# Altium integrated library Diodes.IntLib: 448 symbols (part 7 of 10)
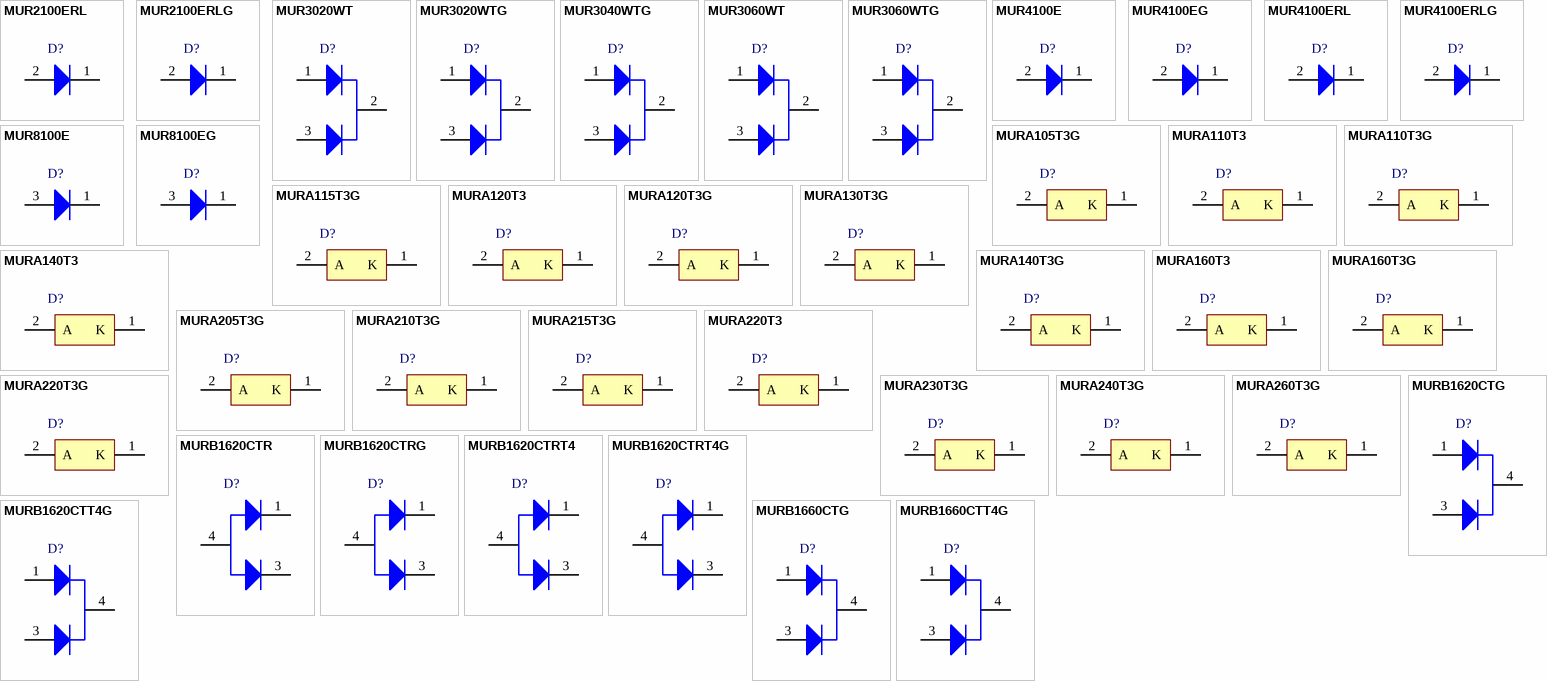
[diagram p17: symbols MUR2100ERL to MURB1660CTT4G]

## MUR8100EG
designator D?
SWITCHMODE(TM) Power Rectifier, Ultrafast 'E' Series with High Reverse Energy Capability, 2-Pin TO-220, Pb-Free, Tube; Manufacturer: On Semiconductor; PartNumber: MUR8100EG; IFSM Max (A): 100; DatasheetVersion: Rev. 4; PackageVersion: Rev. E; PackageReference: TO-220-2-221B-04_E; PackageDescription: 2-Pin Flange Mount, Vertical Straight Lead, Body 9.97 x 4.44 mm, Pitch 5.08 mm; Supplier 1: Digi-Key; Supplier Part Number 1: MUR8100EGOS-ND; Supplier 2: Farnell; Supplier Part Number 2: 9557547; Supplier 3: Newark; Supplier Part Number 3: 88H4948; Supplier 4: Mouser; Supplier Part Number 4: 863-MUR8100EG; Packing: Tube; RoHS: TRUE; Type: Ultrafast; Mounting Technology: Through Hole; ComponentLink1Description: Manufacturer URL; ComponentLink1URL: http://www.onsemi.com/; ComponentLink2Description: Datasheet; ComponentLink2URL: http://www.onsemi.cn/pub_link/Collateral/MUR8100E-D.PDF; ComponentLink3Description: Package Specification; ComponentLink3URL: http://www.onsemi.com/pub_link/Collateral/BYW29-D.PDF
footprint ONSC-TO-220-2-221B-04_E (FM, 2-Leads, Body 10.3x4.85mm, Pitch 5.08mm)
pins: 1 K, 3 A

## MURA105T3G
designator D?
Surface Mount Ultrafast Power Rectifier, 2-Pin SMA, Pb-Free, Tape and Reel; Manufacturer: On Semiconductor; PartNumber: MURA105T3G; IFSM Max (A): 50; DatasheetVersion: Rev. 5; PackageVersion: Rev. G, 07/2012; PackageReference: SMA-2-403D-02; PackageDescription: 2-Pin Small Molded Package, J-Bend Lead, Body 2.605 x 4.315 mm; Supplier 1: Digi-Key; Supplier Part Number 1: MURA105T3GOSTR-ND; Supplier 2: Digi-Key; Supplier Part Number 2: MURA105T3GOSCT-ND; Supplier 3: Digi-Key; Supplier Part Number 3: MURA105T3GOSDKR-ND; Supplier 4: Farnell; Supplier Part Number 4: 1311161; Supplier 5: Newark; Supplier Part Number 5: 26K4688; Supplier 6: Mouser; Supplier Part Number 6: 863-MURA105T3G; Packing: Tape and Reel; RoHS: TRUE; Type: Ultrafast; Mounting Technology: Surface Mount; ComponentLink1Description: Manufacturer URL; ComponentLink1URL: http://www.onsemi.com/; ComponentLink2Description: Datasheet; ComponentLink2URL: http://www.onsemi.cn/pub_link/Collateral/MURA105T3-D.PDF; ComponentLink3Description: Package Specification; ComponentLink3URL: http://www.onsemi.com/pub_link/Collateral/403D-02.PDF
footprint ONSC-SMA-2-403D-02_V (Molded, 2-Leads, Body 4.57x2.92mm)
pins: 1 K, 2 A

## MURA110T3
designator D?
Surface Mount Ultrafast Power Rectifier, 2-Pin SMA, Tape and Reel; Manufacturer: On Semiconductor; PartNumber: MURA110T3; IFSM Max (A): 50; DatasheetVersion: Rev. 5; PackageVersion: Rev. G, 07/2012; PackageReference: SMA-2-403D-02; PackageDescription: 2-Pin Small Molded Package, J-Bend Lead, Body 2.605 x 4.315 mm; Supplier 1: Digi-Key; Supplier Part Number 1: MURA110T3OSCT-ND; Supplier 2: Digi-Key; Supplier Part Number 2: MURA110T3OSDKR-ND; Packing: Tape and Reel; RoHS: FALSE; Type: Ultrafast; Mounting Technology: Surface Mount; ComponentLink1Description: Manufacturer URL; ComponentLink1URL: http://www.onsemi.com/; ComponentLink2Description: Datasheet; ComponentLink2URL: http://www.onsemi.cn/pub_link/Collateral/MURA105T3-D.PDF; ComponentLink3Description: Package Specification; ComponentLink3URL: http://www.onsemi.com/pub_link/Collateral/403D-02.PDF
footprint ONSC-SMA-2-403D-02_V (Molded, 2-Leads, Body 4.57x2.92mm)
pins: 1 K, 2 A

## MURA110T3G
designator D?
Surface Mount Ultrafast Power Rectifier, 2-Pin SMA, Pb-Free, Tape and Reel; Manufacturer: On Semiconductor; PartNumber: MURA110T3G; IFSM Max (A): 50; DatasheetVersion: Rev. 5; PackageVersion: Rev. G, 07/2012; PackageReference: SMA-2-403D-02; PackageDescription: 2-Pin Small Molded Package, J-Bend Lead, Body 2.605 x 4.315 mm; Supplier 1: Digi-Key; Supplier Part Number 1: MURA110T3GOSTR-ND; Supplier 2: Digi-Key; Supplier Part Number 2: MURA110T3GOSCT-ND; Supplier 3: Digi-Key; Supplier Part Number 3: MURA110T3GOSDKR-ND; Supplier 4: Farnell; Supplier Part Number 4: 1459146RL; Supplier 5: Farnell; Supplier Part Number 5: 1459146; Supplier 6: Farnell; Supplier Part Number 6: 2370837; Supplier 7: Newark; Supplier Part Number 7: 67R1385; Supplier 8: Newark; Supplier Part Number 8: 45J1731; Supplier 9: Mouser; Supplier Part Number 9: 863-MURA110T3G; Packing: Tape and Reel; RoHS: TRUE; Type: Ultrafast; Mounting Technology: Surface Mount; ComponentLink1Description: Manufacturer URL; ComponentLink1URL: http://www.onsemi.com/; ComponentLink2Description: Datasheet; ComponentLink2URL: http://www.onsemi.cn/pub_link/Collateral/MURA105T3-D.PDF; ComponentLink3Description: Package Specification; ComponentLink3URL: http://www.onsemi.com/pub_link/Collateral/403D-02.PDF
footprint ONSC-SMA-2-403D-02_V (Molded, 2-Leads, Body 4.57x2.92mm)
pins: 1 K, 2 A

## MURA115T3G
designator D?
Surface Mount Ultrafast Power Rectifier, 2-Pin SMA, Pb-Free, Tape and Reel; Manufacturer: On Semiconductor; PartNumber: MURA115T3G; IFSM Max (A): 40; DatasheetVersion: Rev. 8; PackageVersion: Rev. G, 07/2012; PackageReference: SMA-2-403D-02; PackageDescription: 2-Pin Small Molded Package, J-Bend Lead, Body 2.605 x 4.315 mm; Supplier 1: Digi-Key; Supplier Part Number 1: MURA115T3GOSTR-ND; Supplier 2: Digi-Key; Supplier Part Number 2: MURA115T3GOSCT-ND; Supplier 3: Digi-Key; Supplier Part Number 3: MURA115T3GOSDKR-ND; Supplier 4: Farnell; Supplier Part Number 4: 1358457; Supplier 5: Newark; Supplier Part Number 5: 45J1732; Supplier 6: Mouser; Supplier Part Number 6: 863-MURA115T3G; Packing: Tape and Reel; RoHS: TRUE; Type: Ultrafast; Mounting Technology: Surface Mount; ComponentLink1Description: Manufacturer URL; ComponentLink1URL: http://www.onsemi.com/; ComponentLink2Description: Datasheet; ComponentLink2URL: http://www.onsemi.cn/pub_link/Collateral/MURA115T3-D.PDF; ComponentLink3Description: Package Specification; ComponentLink3URL: http://www.onsemi.com/pub_link/Collateral/403D-02.PDF
footprint ONSC-SMA-2-403D-02_V (Molded, 2-Leads, Body 4.57x2.92mm)
pins: 1 K, 2 A

## MURA120T3
designator D?
Surface Mount Ultrafast Power Rectifier, 2-Pin SMA, Tape and Reel; Manufacturer: On Semiconductor; PartNumber: MURA120T3; IFSM Max (A): 40; DatasheetVersion: Rev. 8; PackageVersion: Rev. G, 07/2012; PackageReference: SMA-2-403D-02; PackageDescription: 2-Pin Small Molded Package, J-Bend Lead, Body 2.605 x 4.315 mm; Supplier 1: Digi-Key; Supplier Part Number 1: MURA120T3OSCT-ND; Supplier 2: Digi-Key; Supplier Part Number 2: MURA120T3OSDKR-ND; Packing: Tape and Reel; RoHS: FALSE; Type: Ultrafast; Mounting Technology: Surface Mount; ComponentLink1Description: Manufacturer URL; ComponentLink1URL: http://www.onsemi.com/; ComponentLink2Description: Datasheet; ComponentLink2URL: http://www.onsemi.cn/pub_link/Collateral/MURA115T3-D.PDF; ComponentLink3Description: Package Specification; ComponentLink3URL: http://www.onsemi.com/pub_link/Collateral/403D-02.PDF
footprint ONSC-SMA-2-403D-02_V (Molded, 2-Leads, Body 4.57x2.92mm)
pins: 1 K, 2 A

## MURA120T3G
designator D?
Surface Mount Ultrafast Power Rectifier, 2-Pin SMA, Pb-Free, Tape and Reel; Manufacturer: On Semiconductor; PartNumber: MURA120T3G; IFSM Max (A): 40; DatasheetVersion: Rev. 8; PackageVersion: Rev. G, 07/2012; PackageReference: SMA-2-403D-02; PackageDescription: 2-Pin Small Molded Package, J-Bend Lead, Body 2.605 x 4.315 mm; Supplier 1: Digi-Key; Supplier Part Number 1: MURA120T3GOSTR-ND; Supplier 2: Digi-Key; Supplier Part Number 2: MURA120T3GOSCT-ND; Supplier 3: Digi-Key; Supplier Part Number 3: MURA120T3GOSDKR-ND; Supplier 4: Farnell; Supplier Part Number 4: 1459147RL; Supplier 5: Farnell; Supplier Part Number 5: 1459147; Supplier 6: Newark; Supplier Part Number 6: 14N8115; Supplier 7: Newark; Supplier Part Number 7: 45J1733; Supplier 8: Mouser; Supplier Part Number 8: 863-MURA120T3G; Packing: Tape and Reel; RoHS: TRUE; Type: Ultrafast; Mounting Technology: Surface Mount; ComponentLink1Description: Manufacturer URL; ComponentLink1URL: http://www.onsemi.com/; ComponentLink2Description: Datasheet; ComponentLink2URL: http://www.onsemi.cn/pub_link/Collateral/MURA115T3-D.PDF; ComponentLink3Description: Package Specification; ComponentLink3URL: http://www.onsemi.com/pub_link/Collateral/403D-02.PDF
footprint ONSC-SMA-2-403D-02_V (Molded, 2-Leads, Body 4.57x2.92mm)
pins: 1 K, 2 A

## MURA130T3G
designator D?
Surface Mount Ultrafast Power Rectifier, 2-Pin SMA, Pb-Free, Tape and Reel; Manufacturer: On Semiconductor; PartNumber: MURA130T3G; IFSM Max (A): 35; DatasheetVersion: Rev. 5; PackageVersion: Rev. G, 07/2012; PackageReference: SMA-2-403D-02; PackageDescription: 2-Pin Small Molded Package, J-Bend Lead, Body 2.605 x 4.315 mm; Supplier 1: Digi-Key; Supplier Part Number 1: MURA130T3GOSTR-ND; Supplier 2: Digi-Key; Supplier Part Number 2: MURA130T3GOSCT-ND; Supplier 3: Digi-Key; Supplier Part Number 3: MURA130T3GOSDKR-ND; Supplier 4: Farnell; Supplier Part Number 4: 1651056; Supplier 5: Farnell; Supplier Part Number 5: 1651056RL; Supplier 6: Newark; Supplier Part Number 6: 42K1578; Supplier 7: Mouser; Supplier Part Number 7: 863-MURA130T3G; Packing: Tape and Reel; RoHS: TRUE; Type: Ultrafast; Mounting Technology: Surface Mount; ComponentLink1Description: Manufacturer URL; ComponentLink1URL: http://www.onsemi.com/; ComponentLink2Description: Datasheet; ComponentLink2URL: http://www.onsemi.cn/pub_link/Collateral/MURA130T3-D.PDF; ComponentLink3Description: Package Specification; ComponentLink3URL: http://www.onsemi.com/pub_link/Collateral/403D-02.PDF
footprint ONSC-SMA-2-403D-02_V (Molded, 2-Leads, Body 4.57x2.92mm)
pins: 1 K, 2 A

## MURA140T3
designator D?
Surface Mount Ultrafast Power Rectifier, 2-Pin SMA, Tape and Reel; Manufacturer: On Semiconductor; PartNumber: MURA140T3; IFSM Max (A): 35; DatasheetVersion: Rev. 5; PackageVersion: Rev. G, 07/2012; PackageReference: SMA-2-403D-02; PackageDescription: 2-Pin Small Molded Package, J-Bend Lead, Body 2.605 x 4.315 mm; Supplier 1: Digi-Key; Supplier Part Number 1: MURA140T3OSCT-ND; Supplier 2: Digi-Key; Supplier Part Number 2: MURA140T3OSDKR-ND; Packing: Tape and Reel; RoHS: FALSE; Type: Ultrafast; Mounting Technology: Surface Mount; ComponentLink1Description: Manufacturer URL; ComponentLink1URL: http://www.onsemi.com/; ComponentLink2Description: Datasheet; ComponentLink2URL: http://www.onsemi.cn/pub_link/Collateral/MURA130T3-D.PDF; ComponentLink3Description: Package Specification; ComponentLink3URL: http://www.onsemi.com/pub_link/Collateral/403D-02.PDF
footprint ONSC-SMA-2-403D-02_V (Molded, 2-Leads, Body 4.57x2.92mm)
pins: 1 K, 2 A

## MURA140T3G
designator D?
Surface Mount Ultrafast Power Rectifier, 2-Pin SMA, Pb-Free, Tape and Reel; Manufacturer: On Semiconductor; PartNumber: MURA140T3G; IFSM Max (A): 35; DatasheetVersion: Rev. 5; PackageVersion: Rev. G, 07/2012; PackageReference: SMA-2-403D-02; PackageDescription: 2-Pin Small Molded Package, J-Bend Lead, Body 2.605 x 4.315 mm; Supplier 1: Digi-Key; Supplier Part Number 1: MURA140T3GOSTR-ND; Supplier 2: Digi-Key; Supplier Part Number 2: MURA140T3GOSCT-ND; Supplier 3: Digi-Key; Supplier Part Number 3: MURA140T3GOSDKR-ND; Supplier 4: Farnell; Supplier Part Number 4: 1459148RL; Supplier 5: Farnell; Supplier Part Number 5: 1459148; Supplier 6: Newark; Supplier Part Number 6: 71J6209; Supplier 7: Mouser; Supplier Part Number 7: 863-MURA140T3G; Packing: Tape and Reel; RoHS: TRUE; Type: Ultrafast; Mounting Technology: Surface Mount; ComponentLink1Description: Manufacturer URL; ComponentLink1URL: http://www.onsemi.com/; ComponentLink2Description: Datasheet; ComponentLink2URL: http://www.onsemi.cn/pub_link/Collateral/MURA130T3-D.PDF; ComponentLink3Description: Package Specification; ComponentLink3URL: http://www.onsemi.com/pub_link/Collateral/403D-02.PDF
footprint ONSC-SMA-2-403D-02_V (Molded, 2-Leads, Body 4.57x2.92mm)
pins: 1 K, 2 A

## MURA160T3
designator D?
Surface Mount Ultrafast Power Rectifier, 2-Pin SMA, Tape and Reel; Manufacturer: On Semiconductor; PartNumber: MURA160T3; IFSM Max (A): 30; VRRM Max (V): 600; DatasheetVersion: Rev. 6; PackageVersion: Rev. G, 07/2012; PackageReference: SMA-2-403D-02; PackageDescription: 2-Pin Small Molded Package, J-Bend Lead, Body 2.605 x 4.315 mm; Supplier 1: Digi-Key; Supplier Part Number 1: MURA160T3OSCT-ND; Supplier 2: Digi-Key; Supplier Part Number 2: MURA160T3OSDKR-ND; Packing: Tape and Reel; RoHS: FALSE; Type: Ultrafast; Mounting Technology: Surface Mount; ComponentLink1Description: Manufacturer URL; ComponentLink1URL: http://www.onsemi.com/; ComponentLink2Description: Datasheet; ComponentLink2URL: http://www.onsemi.cn/pub_link/Collateral/MURA160T3-D.PDF; ComponentLink3Description: Package Specification; ComponentLink3URL: http://www.onsemi.com/pub_link/Collateral/403D-02.PDF
footprint ONSC-SMA-2-403D-02_V (Molded, 2-Leads, Body 4.57x2.92mm)
pins: 1 K, 2 A

## MURA160T3G
designator D?
Surface Mount Ultrafast Power Rectifier, 2-Pin SMA, Pb-Free, Tape and Reel; Manufacturer: On Semiconductor; PartNumber: MURA160T3G; IFSM Max (A): 30; VRRM Max (V): 600; DatasheetVersion: Rev. 6; PackageVersion: Rev. G, 07/2012; PackageReference: SMA-2-403D-02; PackageDescription: 2-Pin Small Molded Package, J-Bend Lead, Body 2.605 x 4.315 mm; Supplier 1: Digi-Key; Supplier Part Number 1: MURA160T3GOSTR-ND; Supplier 2: Digi-Key; Supplier Part Number 2: MURA160T3GOSCT-ND; Supplier 3: Digi-Key; Supplier Part Number 3: MURA160T3GOSDKR-ND; Supplier 4: Farnell; Supplier Part Number 4: 1459149RL; Supplier 5: Farnell; Supplier Part Number 5: 1459149; Supplier 6: Farnell; Supplier Part Number 6: 2370838; Supplier 7: Newark; Supplier Part Number 7: 98H0858; Supplier 8: Newark; Supplier Part Number 8: 67R1386; Supplier 9: Mouser; Supplier Part Number 9: 863-MURA160T3G; Packing: Tape and Reel; RoHS: TRUE; Type: Ultrafast; Mounting Technology: Surface Mount; ComponentLink1Description: Manufacturer URL; ComponentLink1URL: http://www.onsemi.com/; ComponentLink2Description: Datasheet; ComponentLink2URL: http://www.onsemi.cn/pub_link/Collateral/MURA160T3-D.PDF; ComponentLink3Description: Package Specification; ComponentLink3URL: http://www.onsemi.com/pub_link/Collateral/403D-02.PDF
footprint ONSC-SMA-2-403D-02_V (Molded, 2-Leads, Body 4.57x2.92mm)
pins: 1 K, 2 A

## MURA205T3G
designator D?
Surface Mount Ultrafast Power Rectifier, 2-Pin SMA, Pb-Free, Tape and Reel; Manufacturer: On Semiconductor; PartNumber: MURA205T3G; IFSM Max (A): 50; DatasheetVersion: Rev. 4; PackageVersion: Rev. G, 07/2012; PackageReference: SMA-2-403D-02; PackageDescription: 2-Pin Small Molded Package, J-Bend Lead, Body 2.605 x 4.315 mm; Supplier 1: Digi-Key; Supplier Part Number 1: MURA205T3GOSTR-ND; Supplier 2: Digi-Key; Supplier Part Number 2: MURA205T3GOSCT-ND; Supplier 3: Digi-Key; Supplier Part Number 3: MURA205T3GOSDKR-ND; Supplier 4: Newark; Supplier Part Number 4: 26K4689; Supplier 5: Mouser; Supplier Part Number 5: 863-MURA205T3G; Packing: Tape and Reel; RoHS: TRUE; Type: Ultrafast; Mounting Technology: Surface Mount; ComponentLink1Description: Manufacturer URL; ComponentLink1URL: http://www.onsemi.com/; ComponentLink2Description: Datasheet; ComponentLink2URL: http://www.onsemi.cn/pub_link/Collateral/MURA205T3-D.PDF; ComponentLink3Description: Package Specification; ComponentLink3URL: http://www.onsemi.com/pub_link/Collateral/403D-02.PDF
footprint ONSC-SMA-2-403D-02_V (Molded, 2-Leads, Body 4.57x2.92mm)
pins: 1 K, 2 A

## MURA210T3G
designator D?
Surface Mount Ultrafast Power Rectifier, 2-Pin SMA, Pb-Free, Tape and Reel; Manufacturer: On Semiconductor; PartNumber: MURA210T3G; IFSM Max (A): 50; DatasheetVersion: Rev. 4; PackageVersion: Rev. G, 07/2012; PackageReference: SMA-2-403D-02; PackageDescription: 2-Pin Small Molded Package, J-Bend Lead, Body 2.605 x 4.315 mm; Supplier 1: Digi-Key; Supplier Part Number 1: MURA210T3GOSTR-ND; Supplier 2: Digi-Key; Supplier Part Number 2: MURA210T3GOSCT-ND; Supplier 3: Digi-Key; Supplier Part Number 3: MURA210T3GOSDKR-ND; Supplier 4: Farnell; Supplier Part Number 4: 1147828; Supplier 5: Newark; Supplier Part Number 5: 45J1734; Supplier 6: Mouser; Supplier Part Number 6: 863-MURA210T3G; Packing: Tape and Reel; RoHS: TRUE; Type: Ultrafast; Mounting Technology: Surface Mount; ComponentLink1Description: Manufacturer URL; ComponentLink1URL: http://www.onsemi.com/; ComponentLink2Description: Datasheet; ComponentLink2URL: http://www.onsemi.cn/pub_link/Collateral/MURA205T3-D.PDF; ComponentLink3Description: Package Specification; ComponentLink3URL: http://www.onsemi.com/pub_link/Collateral/403D-02.PDF
footprint ONSC-SMA-2-403D-02_V (Molded, 2-Leads, Body 4.57x2.92mm)
pins: 1 K, 2 A

## MURA215T3G
designator D?
Surface Mount Ultrafast Power Rectifier, 2-Pin SMA, Pb-Free, Tape and Reel; Manufacturer: On Semiconductor; PartNumber: MURA215T3G; IFSM Max (A): 40; DatasheetVersion: Rev. 5; PackageVersion: Rev. G, 07/2012; PackageReference: SMA-2-403D-02; PackageDescription: 2-Pin Small Molded Package, J-Bend Lead, Body 2.605 x 4.315 mm; Supplier 1: Digi-Key; Supplier Part Number 1: MURA215T3GOS-ND; Supplier 2: Newark; Supplier Part Number 2: 42K1579; Supplier 3: Mouser; Supplier Part Number 3: 863-MURA215T3G; Packing: Tape and Reel; RoHS: TRUE; Type: Ultrafast; Mounting Technology: Surface Mount; ComponentLink1Description: Manufacturer URL; ComponentLink1URL: http://www.onsemi.com/; ComponentLink2Description: Datasheet; ComponentLink2URL: http://www.onsemi.cn/pub_link/Collateral/MURA215T3-D.PDF; ComponentLink3Description: Package Specification; ComponentLink3URL: http://www.onsemi.com/pub_link/Collateral/403D-02.PDF
footprint ONSC-SMA-2-403D-02_V (Molded, 2-Leads, Body 4.57x2.92mm)
pins: 1 K, 2 A

## MURA220T3
designator D?
Surface Mount Ultrafast Power Rectifier, 2-Pin SMA, Tape and Reel; Manufacturer: On Semiconductor; PartNumber: MURA220T3; Note: 0; IFSM Max (A): 40; DatasheetVersion: Rev. 5; PackageVersion: Rev. G, 07/2012; PackageReference: SMA-2-403D-02; PackageDescription: 2-Pin Small Molded Package, J-Bend Lead, Body 2.605 x 4.315 mm; Packing: Tape and Reel; RoHS: FALSE; Type: Ultrafast; Mounting Technology: Surface Mount; ComponentLink1Description: Manufacturer URL; ComponentLink1URL: http://www.onsemi.com/; ComponentLink2Description: Datasheet; ComponentLink2URL: http://www.onsemi.cn/pub_link/Collateral/MURA215T3-D.PDF; ComponentLink3Description: Package Specification; ComponentLink3URL: http://www.onsemi.com/pub_link/Collateral/403D-02.PDF
footprint ONSC-SMA-2-403D-02_V (Molded, 2-Leads, Body 4.57x2.92mm)
pins: 1 K, 2 A

## MURA220T3G
designator D?
Surface Mount Ultrafast Power Rectifier, 2-Pin SMA, Pb-Free, Tape and Reel; Manufacturer: On Semiconductor; PartNumber: MURA220T3G; IFSM Max (A): 40; DatasheetVersion: Rev. 5; PackageVersion: Rev. G, 07/2012; PackageReference: SMA-2-403D-02; PackageDescription: 2-Pin Small Molded Package, J-Bend Lead, Body 2.605 x 4.315 mm; Supplier 1: Digi-Key; Supplier Part Number 1: MURA220T3GOSTR-ND; Supplier 2: Digi-Key; Supplier Part Number 2: MURA220T3GOSCT-ND; Supplier 3: Digi-Key; Supplier Part Number 3: MURA220T3GOSDKR-ND; Supplier 4: Farnell; Supplier Part Number 4: 1651057; Supplier 5: Farnell; Supplier Part Number 5: 1651057RL; Supplier 6: Newark; Supplier Part Number 6: 26K4690; Supplier 7: Mouser; Supplier Part Number 7: 863-MURA220T3G; Packing: Tape and Reel; RoHS: TRUE; Type: Ultrafast; Mounting Technology: Surface Mount; ComponentLink1Description: Manufacturer URL; ComponentLink1URL: http://www.onsemi.com/; ComponentLink2Description: Datasheet; ComponentLink2URL: http://www.onsemi.cn/pub_link/Collateral/MURA215T3-D.PDF; ComponentLink3Description: Package Specification; ComponentLink3URL: http://www.onsemi.com/pub_link/Collateral/403D-02.PDF
footprint ONSC-SMA-2-403D-02_V (Molded, 2-Leads, Body 4.57x2.92mm)
pins: 1 K, 2 A

## MURA230T3G
designator D?
Surface Mount Ultrafast Power Rectifier, 2-Pin SMA, Pb-Free, Tape and Reel; Manufacturer: On Semiconductor; PartNumber: MURA230T3G; IFSM Max (A): 35; DatasheetVersion: Rev. 4; PackageVersion: Rev. G, 07/2012; PackageReference: SMA-2-403D-02; PackageDescription: 2-Pin Small Molded Package, J-Bend Lead, Body 2.605 x 4.315 mm; Supplier 1: Digi-Key; Supplier Part Number 1: MURA230T3GOSTR-ND; Supplier 2: Digi-Key; Supplier Part Number 2: MURA230T3GOSCT-ND; Supplier 3: Digi-Key; Supplier Part Number 3: MURA230T3GOSDKR-ND; Supplier 4: Newark; Supplier Part Number 4: 42K1580; Supplier 5: Mouser; Supplier Part Number 5: 863-MURA230T3G; Packing: Tape and Reel; RoHS: TRUE; Type: Ultrafast; Mounting Technology: Surface Mount; ComponentLink1Description: Manufacturer URL; ComponentLink1URL: http://www.onsemi.com/; ComponentLink2Description: Datasheet; ComponentLink2URL: http://www.onsemi.cn/pub_link/Collateral/MURA230T3-D.PDF; ComponentLink3Description: Package Specification; ComponentLink3URL: http://www.onsemi.com/pub_link/Collateral/403D-02.PDF
footprint ONSC-SMA-2-403D-02_V (Molded, 2-Leads, Body 4.57x2.92mm)
pins: 1 K, 2 A

## MURA240T3G
designator D?
Surface Mount Ultrafast Power Rectifier, 2-Pin SMA, Pb-Free, Tape and Reel; Manufacturer: On Semiconductor; PartNumber: MURA240T3G; IFSM Max (A): 35; DatasheetVersion: Rev. 4; PackageVersion: Rev. G, 07/2012; PackageReference: SMA-2-403D-02; PackageDescription: 2-Pin Small Molded Package, J-Bend Lead, Body 2.605 x 4.315 mm; Supplier 1: Digi-Key; Supplier Part Number 1: MURA240T3GOSTR-ND; Supplier 2: Digi-Key; Supplier Part Number 2: MURA240T3GOSCT-ND; Supplier 3: Digi-Key; Supplier Part Number 3: MURA240T3GOSDKR-ND; Supplier 4: Newark; Supplier Part Number 4: 42K1581; Supplier 5: Mouser; Supplier Part Number 5: 863-MURA240T3G; Packing: Tape and Reel; RoHS: TRUE; Type: Ultrafast; Mounting Technology: Surface Mount; ComponentLink1Description: Manufacturer URL; ComponentLink1URL: http://www.onsemi.com/; ComponentLink2Description: Datasheet; ComponentLink2URL: http://www.onsemi.cn/pub_link/Collateral/MURA230T3-D.PDF; ComponentLink3Description: Package Specification; ComponentLink3URL: http://www.onsemi.com/pub_link/Collateral/403D-02.PDF
footprint ONSC-SMA-2-403D-02_V (Molded, 2-Leads, Body 4.57x2.92mm)
pins: 1 K, 2 A

## MURA260T3G
designator D?
Surface Mount Ultrafast Power Rectifier, 2-Pin SMA, Pb-Free, Tape and Reel; Manufacturer: On Semiconductor; PartNumber: MURA260T3G; IFSM Max (A): 30; VRRM Max (V): 600; DatasheetVersion: Rev. 4; PackageVersion: Rev. G, 07/2012; PackageReference: SMA-2-403D-02; PackageDescription: 2-Pin Small Molded Package, J-Bend Lead, Body 2.605 x 4.315 mm; Supplier 1: Digi-Key; Supplier Part Number 1: MURA260T3GOSTR-ND; Supplier 2: Digi-Key; Supplier Part Number 2: MURA260T3GOSCT-ND; Supplier 3: Digi-Key; Supplier Part Number 3: MURA260T3GOSDKR-ND; Supplier 4: Farnell; Supplier Part Number 4: 2317396; Supplier 5: Farnell; Supplier Part Number 5: 2317666; Supplier 6: Newark; Supplier Part Number 6: 42K1582; Supplier 7: Newark; Supplier Part Number 7: 55T0912; Supplier 8: Mouser; Supplier Part Number 8: 863-MURA260T3G; Packing: Tape and Reel; RoHS: TRUE; Type: Ultrafast; Mounting Technology: Surface Mount; ComponentLink1Description: Manufacturer URL; ComponentLink1URL: http://www.onsemi.com/; ComponentLink2Description: Datasheet; ComponentLink2URL: http://www.onsemi.cn/pub_link/Collateral/MURA260T3-D.PDF; ComponentLink3Description: Package Specification; ComponentLink3URL: http://www.onsemi.com/pub_link/Collateral/403D-02.PDF
footprint ONSC-SMA-2-403D-02_V (Molded, 2-Leads, Body 4.57x2.92mm)
pins: 1 K, 2 A

## MURB1620CTG
designator D?
SWITCHMODE(TM) Power Rectifier, 3-Pin D2PAK, Pb-Free, Tube; Manufacturer: On Semiconductor; PartNumber: MURB1620CTG; IFSM Max (A): 100; Type: Ultrafast; VRRM Max (V): 200; DatasheetVersion: Rev. 7; PackageVersion: Rev. K, 09/2008; PackageReference: D2PAK-3-418B-04; PackageDescription: 3-Pin Flange Mount, Body 9.145 x 9.97 mm, Pitch 2.54 mm; Supplier 1: Digi-Key; Supplier Part Number 1: MURB1620CTGOS-ND; Supplier 2: Farnell; Supplier Part Number 2: 1702792; Supplier 3: Newark; Supplier Part Number 3: 88H4944; Supplier 4: Mouser; Supplier Part Number 4: 863-MURB1620CTG; Packing: Tube; RoHS: TRUE; Mounting Technology: Surface Mount; ComponentLink1Description: Manufacturer URL; ComponentLink1URL: http://www.onsemi.com/; ComponentLink2Description: Datasheet; ComponentLink2URL: http://www.onsemi.cn/pub_link/Collateral/MURB1620CT-D.PDF; ComponentLink3Description: Package Specification; ComponentLink3URL: http://www.onsemi.com/pub_link/Collateral/418B-04.PDF
footprint ONSC-D2PAK-3-418B-04_V (DPAK, 3-Leads, Body 9.97x9.145mm, Pitch 2.54mm)
pins: 1 A1, 3 A2, 4 K

## MURB1620CTR
designator D?
SWITCHMODE(TM) Power Rectifier, 3-Pin D2PAK, Tube; Manufacturer: On Semiconductor; PartNumber: MURB1620CTR; IFSM Max (A): 100; Type: Ultrafast; VRRM Max (V): 200; DatasheetVersion: Rev. 8; PackageVersion: Rev. A, 07/2011; PackageReference: D2PAK-3-418AJ_A; PackageDescription: 3-Pin Flange Mount, Body 10.16 x 9.015 mm, Pitch 2.54 mm; Supplier 1: Digi-Key; Supplier Part Number 1: MURB1620CTR-ND; Packing: Tube; RoHS: FALSE; Mounting Technology: Surface Mount; ComponentLink1Description: Manufacturer URL; ComponentLink1URL: http://www.onsemi.com/; ComponentLink2Description: Datasheet; ComponentLink2URL: http://www.onsemi.cn/pub_link/Collateral/MUR1620CTR-D.PDF; ComponentLink3Description: Package Specification; ComponentLink3URL: http://www.onsemi.cn/pub_link/Collateral/MUR1620CTR-D.PDF
footprint ONSC-D2PAK-3-418AJ_A_V (DPAK, 3-Leads, Body 10.16x9.015mm, Pitch 2.54mm)
pins: 1 K1, 3 K2, 4 A

## MURB1620CTRG
designator D?
SWITCHMODE(TM) Power Rectifier, 3-Pin D2PAK, Pb-Free, Tube; Manufacturer: On Semiconductor; PartNumber: MURB1620CTRG; IFSM Max (A): 100; Type: Ultrafast; VRRM Max (V): 200; DatasheetVersion: Rev. 8; PackageVersion: Rev. A, 07/2011; PackageReference: D2PAK-3-418AJ_A; PackageDescription: 3-Pin Flange Mount, Body 10.16 x 9.015 mm, Pitch 2.54 mm; Supplier 1: Digi-Key; Supplier Part Number 1: MURB1620CTRGOS-ND; Supplier 2: Newark; Supplier Part Number 2: 42K1583; Supplier 3: Mouser; Supplier Part Number 3: 863-MURB1620CTRG; Packing: Tube; RoHS: TRUE; Mounting Technology: Surface Mount; ComponentLink1Description: Manufacturer URL; ComponentLink1URL: http://www.onsemi.com/; ComponentLink2Description: Datasheet; ComponentLink2URL: http://www.onsemi.cn/pub_link/Collateral/MUR1620CTR-D.PDF; ComponentLink3Description: Package Specification; ComponentLink3URL: http://www.onsemi.cn/pub_link/Collateral/MUR1620CTR-D.PDF
footprint ONSC-D2PAK-3-418AJ_A_V (DPAK, 3-Leads, Body 10.16x9.015mm, Pitch 2.54mm)
pins: 1 K1, 3 K2, 4 A

## MURB1620CTRT4
designator D?
SWITCHMODE(TM) Power Rectifier, 3-Pin D2PAK, Tape and Reel; Manufacturer: On Semiconductor; PartNumber: MURB1620CTRT4; IFSM Max (A): 100; Type: Ultrafast; VRRM Max (V): 200; DatasheetVersion: Rev. 8; PackageVersion: Rev. A, 07/2011; PackageReference: D2PAK-3-418AJ_A; PackageDescription: 3-Pin Flange Mount, Body 10.16 x 9.015 mm, Pitch 2.54 mm; Supplier 1: Digi-Key; Supplier Part Number 1: MURB1620CTRT4OSTR-ND; Supplier 2: Digi-Key; Supplier Part Number 2: MURB1620CTRT4OSCT-ND; Packing: Tape and Reel; RoHS: FALSE; Mounting Technology: Surface Mount; ComponentLink1Description: Manufacturer URL; ComponentLink1URL: http://www.onsemi.com/; ComponentLink2Description: Datasheet; ComponentLink2URL: http://www.onsemi.cn/pub_link/Collateral/MUR1620CTR-D.PDF; ComponentLink3Description: Package Specification; ComponentLink3URL: http://www.onsemi.cn/pub_link/Collateral/MUR1620CTR-D.PDF
footprint ONSC-D2PAK-3-418AJ_A_V (DPAK, 3-Leads, Body 10.16x9.015mm, Pitch 2.54mm)
pins: 1 K1, 3 K2, 4 A

## MURB1620CTRT4G
designator D?
SWITCHMODE(TM) Power Rectifier, 3-Pin D2PAK, Pb-Free, Tape and Reel; Manufacturer: On Semiconductor; PartNumber: MURB1620CTRT4G; IFSM Max (A): 100; Type: Ultrafast; VRRM Max (V): 200; DatasheetVersion: Rev. 8; PackageVersion: Rev. A, 07/2011; PackageReference: D2PAK-3-418AJ_A; PackageDescription: 3-Pin Flange Mount, Body 10.16 x 9.015 mm, Pitch 2.54 mm; Supplier 1: Digi-Key; Supplier Part Number 1: MURB1620CTRT4GOSTR-ND; Supplier 2: Digi-Key; Supplier Part Number 2: MURB1620CTRT4GOSCT-ND; Supplier 3: Digi-Key; Supplier Part Number 3: MURB1620CTRT4GOSDKR-ND; Supplier 4: Newark; Supplier Part Number 4: 42K1584; Supplier 5: Mouser; Supplier Part Number 5: 863-MURB1620CTRT4G; Packing: Tape and Reel; RoHS: TRUE; Mounting Technology: Surface Mount; ComponentLink1Description: Manufacturer URL; ComponentLink1URL: http://www.onsemi.com/; ComponentLink2Description: Datasheet; ComponentLink2URL: http://www.onsemi.cn/pub_link/Collateral/MUR1620CTR-D.PDF; ComponentLink3Description: Package Specification; ComponentLink3URL: http://www.onsemi.cn/pub_link/Collateral/MUR1620CTR-D.PDF
footprint ONSC-D2PAK-3-418AJ_A_V (DPAK, 3-Leads, Body 10.16x9.015mm, Pitch 2.54mm)
pins: 1 K1, 3 K2, 4 A

## MURB1620CTT4G
designator D?
SWITCHMODE(TM) Power Rectifier, 3-Pin D2PAK, Pb-Free, Tape and Reel; Manufacturer: On Semiconductor; PartNumber: MURB1620CTT4G; IFSM Max (A): 100; Type: Ultrafast; VRRM Max (V): 200; DatasheetVersion: Rev. 7; PackageVersion: Rev. K, 09/2008; PackageReference: D2PAK-3-418B-04; PackageDescription: 3-Pin Flange Mount, Body 9.145 x 9.97 mm, Pitch 2.54 mm; Supplier 1: Digi-Key; Supplier Part Number 1: MURB1620CTT4GOSTR-ND; Supplier 2: Digi-Key; Supplier Part Number 2: MURB1620CTT4GOSCT-ND; Supplier 3: Digi-Key; Supplier Part Number 3: MURB1620CTT4GOSDKR-ND; Supplier 4: Farnell; Supplier Part Number 4: 2317429; Supplier 5: Newark; Supplier Part Number 5: 98H0859; Supplier 6: Mouser; Supplier Part Number 6: 863-MURB1620CTT4G; Packing: Tape and Reel; RoHS: TRUE; Mounting Technology: Surface Mount; ComponentLink1Description: Manufacturer URL; ComponentLink1URL: http://www.onsemi.com/; ComponentLink2Description: Datasheet; ComponentLink2URL: http://www.onsemi.cn/pub_link/Collateral/MURB1620CT-D.PDF; ComponentLink3Description: Package Specification; ComponentLink3URL: http://www.onsemi.com/pub_link/Collateral/418B-04.PDF
footprint ONSC-D2PAK-3-418B-04_V (DPAK, 3-Leads, Body 9.97x9.145mm, Pitch 2.54mm)
pins: 1 A1, 3 A2, 4 K

## MURB1660CTG
designator D?
SWITCHMODE(TM) Power Rectifier, 3-Pin D2PAK, Pb-Free, Tube; Manufacturer: On Semiconductor; PartNumber: MURB1660CTG; IFSM Max (A): 100; Type: Ultrafast; VRRM Max (V): 600; DatasheetVersion: Rev. 8; PackageVersion: Rev. K, 09/2008; PackageReference: D2PAK-3-418B-04; PackageDescription: 3-Pin Flange Mount, Body 9.145 x 9.97 mm, Pitch 2.54 mm; Supplier 1: Digi-Key; Supplier Part Number 1: MURB1660CTGOS-ND; Supplier 2: Newark; Supplier Part Number 2: 26K4691; Supplier 3: Mouser; Supplier Part Number 3: 863-MURB1660CTG; Packing: Tube; RoHS: TRUE; Mounting Technology: Surface Mount; ComponentLink1Description: Manufacturer URL; ComponentLink1URL: http://www.onsemi.com/; ComponentLink2Description: Datasheet; ComponentLink2URL: http://www.onsemi.cn/pub_link/Collateral/MURB1660CT-D.PDF; ComponentLink3Description: Package Specification; ComponentLink3URL: http://www.onsemi.com/pub_link/Collateral/418B-04.PDF
footprint ONSC-D2PAK-3-418B-04_V (DPAK, 3-Leads, Body 9.97x9.145mm, Pitch 2.54mm)
pins: 1 A1, 3 A2, 4 K

## MURB1660CTT4G
designator D?
SWITCHMODE(TM) Power Rectifier, 3-Pin D2PAK, Pb-Free, Tape and Reel; Manufacturer: On Semiconductor; PartNumber: MURB1660CTT4G; IFSM Max (A): 100; Type: Ultrafast; VRRM Max (V): 600; DatasheetVersion: Rev. 8; PackageVersion: Rev. K, 09/2008; PackageReference: D2PAK-3-418B-04; PackageDescription: 3-Pin Flange Mount, Body 9.145 x 9.97 mm, Pitch 2.54 mm; Supplier 1: Digi-Key; Supplier Part Number 1: MURB1660CTT4GOSTR-ND; Supplier 2: Digi-Key; Supplier Part Number 2: MURB1660CTT4GOSCT-ND; Supplier 3: Digi-Key; Supplier Part Number 3: MURB1660CTT4GOSDKR-ND; Supplier 4: Farnell; Supplier Part Number 4: 1887101; Supplier 5: Newark; Supplier Part Number 5: 09R9583; Supplier 6: Mouser; Supplier Part Number 6: 863-MURB1660CTT4G; Packing: Tape and Reel; RoHS: TRUE; Mounting Technology: Surface Mount; ComponentLink1Description: Manufacturer URL; ComponentLink1URL: http://www.onsemi.com/; ComponentLink2Description: Datasheet; ComponentLink2URL: http://www.onsemi.cn/pub_link/Collateral/MURB1660CT-D.PDF; ComponentLink3Description: Package Specification; ComponentLink3URL: http://www.onsemi.com/pub_link/Collateral/418B-04.PDF
footprint ONSC-D2PAK-3-418B-04_V (DPAK, 3-Leads, Body 9.97x9.145mm, Pitch 2.54mm)
pins: 1 A1, 3 A2, 4 K

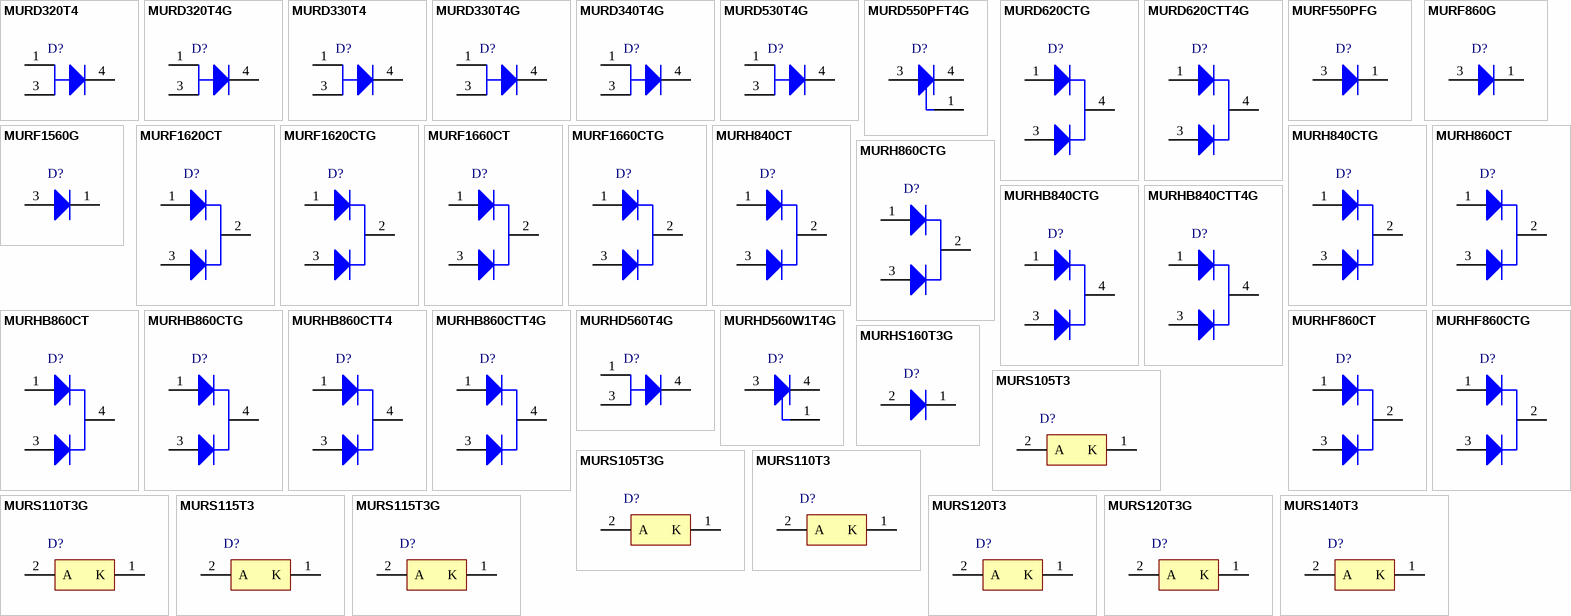
[diagram p8: symbols MURD320T4 to MURS140T3]

## MURD320T4
designator D?
SWITCHMODE(TM) Power Rectifier, 3-Pin DPAK, Tape and Reel; Manufacturer: On Semiconductor; PartNumber: MURD320T4; IFSM Max (A): 75; Type: Ultrafast; VRRM Max (V): 200; DatasheetVersion: Rev. 7; PackageVersion: Rev. E, 02/2014; PackageReference: DPAK-3-369C-01; PackageDescription: 3-Pin Flange Mount, Body 6.54 x 6.095 mm, Pitch 2.29 mm; Supplier 1: Digi-Key; Supplier Part Number 1: MURD320T4OSCT-ND; Supplier 2: Digi-Key; Supplier Part Number 2: MURD320T4OSDKR-ND; Packing: Tape and Reel; RoHS: FALSE; Mounting Technology: Surface Mount; ComponentLink1Description: Manufacturer URL; ComponentLink1URL: http://www.onsemi.com/; ComponentLink2Description: Datasheet; ComponentLink2URL: http://www.onsemi.cn/pub_link/Collateral/MURD320-D.PDF; ComponentLink3Description: Package Specification; ComponentLink3URL: http://www.onsemi.cn/pub_link/Collateral/369C.PDF
footprint ONSC-DPAK-3-369C-01_V (DPAK, 3-Leads, Body 6.54x6.095mm, Pitch 2.29mm)
pins: 1 A, 3 A, 4 K

## MURD320T4G
designator D?
SWITCHMODE(TM) Power Rectifier, 3-Pin DPAK, Pb-Free, Tape and Reel; Manufacturer: On Semiconductor; PartNumber: MURD320T4G; IFSM Max (A): 75; Type: Ultrafast; VRRM Max (V): 200; DatasheetVersion: Rev. 7; PackageVersion: Rev. E, 02/2014; PackageReference: DPAK-3-369C-01; PackageDescription: 3-Pin Flange Mount, Body 6.54 x 6.095 mm, Pitch 2.29 mm; Supplier 1: Digi-Key; Supplier Part Number 1: MURD320T4GOSTR-ND; Supplier 2: Digi-Key; Supplier Part Number 2: MURD320T4GOSCT-ND; Supplier 3: Digi-Key; Supplier Part Number 3: MURD320T4GOSDKR-ND; Supplier 4: Farnell; Supplier Part Number 4: 1651058; Supplier 5: Newark; Supplier Part Number 5: 45J1735; Supplier 6: Mouser; Supplier Part Number 6: 863-MURD320T4G; Packing: Tape and Reel; RoHS: TRUE; Mounting Technology: Surface Mount; ComponentLink1Description: Manufacturer URL; ComponentLink1URL: http://www.onsemi.com/; ComponentLink2Description: Datasheet; ComponentLink2URL: http://www.onsemi.cn/pub_link/Collateral/MURD320-D.PDF; ComponentLink3Description: Package Specification; ComponentLink3URL: http://www.onsemi.cn/pub_link/Collateral/369C.PDF
footprint ONSC-DPAK-3-369C-01_V (DPAK, 3-Leads, Body 6.54x6.095mm, Pitch 2.29mm)
pins: 1 A, 3 A, 4 K

## MURD330T4
designator D?
SWITCHMODE(TM) Power Rectifier, 3-Pin DPAK, Tape and Reel; Manufacturer: On Semiconductor; PartNumber: MURD330T4; Note: 0; IFSM Max (A): 75; Type: Ultrafast; DatasheetVersion: Rev. 5; PackageVersion: Rev. E, 02/2014; PackageReference: DPAK-3-369C-01; PackageDescription: 3-Pin Flange Mount, Body 6.54 x 6.095 mm, Pitch 2.29 mm; Packing: Tape and Reel; RoHS: FALSE; Mounting Technology: Surface Mount; ComponentLink1Description: Manufacturer URL; ComponentLink1URL: http://www.onsemi.com/; ComponentLink2Description: Datasheet; ComponentLink2URL: http://www.onsemi.cn/pub_link/Collateral/MURD330-D.PDF; ComponentLink3Description: Package Specification; ComponentLink3URL: http://www.onsemi.cn/pub_link/Collateral/369C.PDF
footprint ONSC-DPAK-3-369C-01_V (DPAK, 3-Leads, Body 6.54x6.095mm, Pitch 2.29mm)
pins: 1 A, 3 A, 4 K

## MURD330T4G
designator D?
SWITCHMODE(TM) Power Rectifier, 3-Pin DPAK, Pb-Free, Tape and Reel; Manufacturer: On Semiconductor; PartNumber: MURD330T4G; IFSM Max (A): 75; Type: Ultrafast; DatasheetVersion: Rev. 5; PackageVersion: Rev. E, 02/2014; PackageReference: DPAK-3-369C-01; PackageDescription: 3-Pin Flange Mount, Body 6.54 x 6.095 mm, Pitch 2.29 mm; Supplier 1: Digi-Key; Supplier Part Number 1: MURD330T4GOSTR-ND; Supplier 2: Digi-Key; Supplier Part Number 2: MURD330T4GOSCT-ND; Supplier 3: Newark; Supplier Part Number 3: 26K4694; Supplier 4: Mouser; Supplier Part Number 4: 863-MURD330T4G; Packing: Tape and Reel; RoHS: TRUE; Mounting Technology: Surface Mount; ComponentLink1Description: Manufacturer URL; ComponentLink1URL: http://www.onsemi.com/; ComponentLink2Description: Datasheet; ComponentLink2URL: http://www.onsemi.cn/pub_link/Collateral/MURD330-D.PDF; ComponentLink3Description: Package Specification; ComponentLink3URL: http://www.onsemi.cn/pub_link/Collateral/369C.PDF
footprint ONSC-DPAK-3-369C-01_V (DPAK, 3-Leads, Body 6.54x6.095mm, Pitch 2.29mm)
pins: 1 A, 3 A, 4 K

## MURD340T4G
designator D?
SWITCHMODE(TM) Power Rectifier, 3-Pin DPAK, Pb-Free, Tape and Reel; Manufacturer: On Semiconductor; PartNumber: MURD340T4G; IFSM Max (A): 75; Type: Ultrafast; DatasheetVersion: Rev. 2; PackageVersion: Rev. E, 02/2014; PackageReference: DPAK-3-369C-01; PackageDescription: 3-Pin Flange Mount, Body 6.54 x 6.095 mm, Pitch 2.29 mm; Supplier 1: Digi-Key; Supplier Part Number 1: MURD340T4G-ND; Supplier 2: Newark; Supplier Part Number 2: 26K4696; Supplier 3: Mouser; Supplier Part Number 3: 863-MURD340T4G; Packing: Tape and Reel; RoHS: TRUE; Mounting Technology: Surface Mount; ComponentLink1Description: Manufacturer URL; ComponentLink1URL: http://www.onsemi.com/; ComponentLink2Description: Datasheet; ComponentLink2URL: http://www.onsemi.cn/pub_link/Collateral/MURD340-D.PDF; ComponentLink3Description: Package Specification; ComponentLink3URL: http://www.onsemi.cn/pub_link/Collateral/369C.PDF
footprint ONSC-DPAK-3-369C-01_V (DPAK, 3-Leads, Body 6.54x6.095mm, Pitch 2.29mm)
pins: 1 A, 3 A, 4 K

## MURD530T4G
designator D?
SWITCHMODE(TM) Power Rectifier, 3-Pin DPAK, Pb-Free, Tape and Reel; Manufacturer: On Semiconductor; PartNumber: MURD530T4G; IFSM Max (A): 75; Type: Ultrafast; VRRM Max (V): 300; DatasheetVersion: Rev. 4; PackageVersion: Rev. E, 02/2014; PackageReference: DPAK-3-369C-01; PackageDescription: 3-Pin Flange Mount, Body 6.54 x 6.095 mm, Pitch 2.29 mm; Supplier 1: Digi-Key; Supplier Part Number 1: MURD530T4GOSTR-ND; Supplier 2: Digi-Key; Supplier Part Number 2: MURD530T4GOSCT-ND; Supplier 3: Digi-Key; Supplier Part Number 3: MURD530T4GOSDKR-ND; Supplier 4: Newark; Supplier Part Number 4: 46P8183; Supplier 5: Mouser; Supplier Part Number 5: 863-MURD530T4G; Packing: Tape and Reel; RoHS: TRUE; Mounting Technology: Surface Mount; ComponentLink1Description: Manufacturer URL; ComponentLink1URL: http://www.onsemi.com/; ComponentLink2Description: Datasheet; ComponentLink2URL: http://www.onsemi.cn/pub_link/Collateral/MURD530-D.PDF; ComponentLink3Description: Package Specification; ComponentLink3URL: http://www.onsemi.cn/pub_link/Collateral/369C.PDF
footprint ONSC-DPAK-3-369C-01_V (DPAK, 3-Leads, Body 6.54x6.095mm, Pitch 2.29mm)
pins: 1 A, 3 A, 4 K

## MURD550PFT4G
designator D?
SWITCHMODE(TM) Power Rectifier, 3-Pin DPAK, Pb-Free, Tape and Reel; Manufacturer: On Semiconductor; PartNumber: MURD550PFT4G; IFSM Max (A): 75; Type: Ultrafast; VRRM Max (V): 520; DatasheetVersion: Rev. 8; PackageVersion: Rev. E, 02/2014; PackageReference: DPAK-3-369C-01; PackageDescription: 3-Pin Flange Mount, Body 6.54 x 6.095 mm, Pitch 2.29 mm; Supplier 1: Digi-Key; Supplier Part Number 1: MURD550PFT4G-ND; Supplier 2: Newark; Supplier Part Number 2: 26K4698; Supplier 3: Mouser; Supplier Part Number 3: 863-MURD550PFT4G; Packing: Tape and Reel; RoHS: TRUE; Mounting Technology: Surface Mount; ComponentLink1Description: Manufacturer URL; ComponentLink1URL: http://www.onsemi.com/; ComponentLink2Description: Datasheet; ComponentLink2URL: http://www.onsemi.cn/pub_link/Collateral/MUR550-D.PDF; ComponentLink3Description: Package Specification; ComponentLink3URL: http://www.onsemi.cn/pub_link/Collateral/369C.PDF
footprint ONSC-DPAK-3-369C-01_V (DPAK, 3-Leads, Body 6.54x6.095mm, Pitch 2.29mm)
pins: 1 NC, 3 A, 4 K

## MURD620CTG
designator D?
SWITCHMODE(TM) Power Rectifier, 3-Pin DPAK, Pb-Free, Tube; Manufacturer: On Semiconductor; PartNumber: MURD620CTG; IFSM Max (A): 50; Type: Ultrafast; VRRM Max (V): 200; DatasheetVersion: Rev. 11; PackageVersion: Rev. E, 02/2014; PackageReference: DPAK-3-369C-01; PackageDescription: 3-Pin Flange Mount, Body 6.54 x 6.095 mm, Pitch 2.29 mm; Supplier 1: Digi-Key; Supplier Part Number 1: MURD620CTGOS-ND; Supplier 2: Farnell; Supplier Part Number 2: 1651059; Supplier 3: Newark; Supplier Part Number 3: 98H0860; Supplier 4: Mouser; Supplier Part Number 4: 863-MURD620CTG; Packing: Tube; RoHS: TRUE; Mounting Technology: Surface Mount; ComponentLink1Description: Manufacturer URL; ComponentLink1URL: http://www.onsemi.com/; ComponentLink2Description: Datasheet; ComponentLink2URL: http://www.onsemi.cn/pub_link/Collateral/MURD620CT-D.PDF; ComponentLink3Description: Package Specification; ComponentLink3URL: http://www.onsemi.cn/pub_link/Collateral/369C.PDF
footprint ONSC-DPAK-3-369C-01_V (DPAK, 3-Leads, Body 6.54x6.095mm, Pitch 2.29mm)
pins: 1 A1, 3 A2, 4 K

## MURD620CTT4G
designator D?
SWITCHMODE(TM) Power Rectifier, 3-Pin DPAK, Pb-Free, Tape and Reel; Manufacturer: On Semiconductor; PartNumber: MURD620CTT4G; IFSM Max (A): 50; Type: Ultrafast; VRRM Max (V): 200; DatasheetVersion: Rev. 11; PackageVersion: Rev. E, 02/2014; PackageReference: DPAK-3-369C-01; PackageDescription: 3-Pin Flange Mount, Body 6.54 x 6.095 mm, Pitch 2.29 mm; Supplier 1: Digi-Key; Supplier Part Number 1: MURD620CTT4GOSTR-ND; Supplier 2: Digi-Key; Supplier Part Number 2: MURD620CTT4GOSCT-ND; Supplier 3: Digi-Key; Supplier Part Number 3: MURD620CTT4GOSDKR-ND; Supplier 4: Farnell; Supplier Part Number 4: 2317414; Supplier 5: Farnell; Supplier Part Number 5: 2370841; Supplier 6: Newark; Supplier Part Number 6: 98H0861; Supplier 7: Newark; Supplier Part Number 7: 67R1387; Supplier 8: Mouser; Supplier Part Number 8: 863-MURD620CTT4G; Packing: Tape and Reel; RoHS: TRUE; Mounting Technology: Surface Mount; ComponentLink1Description: Manufacturer URL; ComponentLink1URL: http://www.onsemi.com/; ComponentLink2Description: Datasheet; ComponentLink2URL: http://www.onsemi.cn/pub_link/Collateral/MURD620CT-D.PDF; ComponentLink3Description: Package Specification; ComponentLink3URL: http://www.onsemi.cn/pub_link/Collateral/369C.PDF
footprint ONSC-DPAK-3-369C-01_V (DPAK, 3-Leads, Body 6.54x6.095mm, Pitch 2.29mm)
pins: 1 A1, 3 A2, 4 K

## MURF550PFG
designator D?
SWITCHMODE(TM) Power Rectifier, 2-Pin TO-220FP, Pb-Free, Tube; Manufacturer: On Semiconductor; PartNumber: MURF550PFG; IFSM Max (A): 100; Type: Ultrafast; VRRM Max (V): 520; DatasheetVersion: Rev. 8; PackageVersion: Rev. A, 01/2008; PackageReference: TO-220FP-2-221E-01; PackageDescription: 2-Pin Flange Mount, Vertical Straight Lead, Body 10.16 x 4.7 mm, Pitch 5.08 mm; Supplier 1: Digi-Key; Supplier Part Number 1: MURF550PFG-ND; Supplier 2: Mouser; Supplier Part Number 2: 863-MURF550PFG; Packing: Tube; RoHS: TRUE; Mounting Technology: Through Hole; ComponentLink1Description: Manufacturer URL; ComponentLink1URL: http://www.onsemi.com/; ComponentLink2Description: Datasheet; ComponentLink2URL: http://www.onsemi.cn/pub_link/Collateral/MUR550-D.PDF; ComponentLink3Description: Package Specification; ComponentLink3URL: http://www.onsemi.com/pub_link/Collateral/221E-01.PDF
footprint ONSC-TO-220FP-2-221E-01 (FM, 2-Leads, Body 10.4x4.9mm, Pitch 5.08mm)
pins: 1 K, 3 A

## MURF860G
designator D?
SWITCHMODE(TM) Power Rectifier, 2-Pin TO-220FP, Pb-Free, Tube; Manufacturer: On Semiconductor; PartNumber: MURF860G; IFSM Max (A): 100; Type: Ultrafast; VRRM Max (V): 600; DatasheetVersion: Rev. 13; PackageVersion: Rev. A, 04/2013; PackageReference: TO-220FP-2-221AG; PackageDescription: 2-Pin Flange Mount, Vertical Straight Lead, Body 10.16 x 4.5 mm, Pitch 5.08 mm; Supplier 1: Digi-Key; Supplier Part Number 1: MURF860GOS-ND; Supplier 2: Newark; Supplier Part Number 2: 95M6797; Supplier 3: Mouser; Supplier Part Number 3: 863-MURF860G; Packing: Tube; RoHS: TRUE; Mounting Technology: Through Hole; ComponentLink1Description: Manufacturer URL; ComponentLink1URL: http://www.onsemi.com/; ComponentLink2Description: Datasheet; ComponentLink2URL: http://www.onsemi.cn/pub_link/Collateral/MUR820-D.PDF; ComponentLink3Description: Package Specification; ComponentLink3URL: http://www.onsemi.com/pub_link/Collateral/221AG.PDF
footprint ONSC-TO-220FP-2-221AG (FM, 2-Leads, Body 10.7x4.7mm, Pitch 5.08mm)
pins: 1 K, 3 A

## MURF1560G
designator D?
SWITCHMODE(TM) Power Rectifier, 2-Pin TO-220, Pb-Free, Tube; Manufacturer: On Semiconductor; PartNumber: MURF1560G; IFSM Max (A): 150; Type: Ultrafast; VRRM Max (V): 600; DatasheetVersion: Rev. 9; PackageVersion: Rev. A, 04/2013; PackageReference: TO-220FP-2-221AG; PackageDescription: 2-Pin FM, Body 4.5 x 10.16 mm, Pitch 2.54 mm; Supplier 1: Digi-Key; Supplier Part Number 1: MURF1560GOS-ND; Supplier 2: Newark; Supplier Part Number 2: 95M6795; Supplier 3: Mouser; Supplier Part Number 3: 863-MURF1560G; Packing: Tube; RoHS: TRUE; Mounting Technology: Through Hole; ComponentLink1Description: Manufacturer URL; ComponentLink1URL: http://www.onsemi.com/; ComponentLink2Description: Datasheet; ComponentLink2URL: http://www.onsemi.com/pub_link/Collateral/MUR1520-D.PDF; ComponentLink3Description: Package Specification; ComponentLink3URL: http://www.onsemi.com/pub_link/Collateral/221AG.PDF
footprint ONSC-TO-220FP-2-221AG (FM, 2-Leads, Body 10.7x4.7mm, Pitch 5.08mm)
pins: 1 K, 3 A

## MURF1620CT
designator D?
SWITCHMODE(TM) Power Rectifier, 3-Pin TO-220FP, Tube; Manufacturer: On Semiconductor; PartNumber: MURF1620CT; IFSM Max (A): 100; Type: Ultrafast; VRRM Max (V): 200; DatasheetVersion: Rev. 10; PackageVersion: Rev. K, 02/2009; PackageReference: TO-220FP-3-221D-03; PackageDescription: 3-Pin Flange Mount, Vertical Straight Lead, Body 10.295 x 4.7 mm, Pitch 2.54 mm; Supplier 1: Digi-Key; Supplier Part Number 1: MURF1620CT-ND; Packing: Tube; RoHS: FALSE; Mounting Technology: Through Hole; ComponentLink1Description: Manufacturer URL; ComponentLink1URL: http://www.onsemi.com/; ComponentLink2Description: Datasheet; ComponentLink2URL: http://www.onsemi.cn/pub_link/Collateral/MURF1620CT-D.PDF; ComponentLink3Description: Package Specification; ComponentLink3URL: http://www.onsemi.cn/pub_link/Collateral/221D-03.PDF
footprint ONSC-TO-220FP-3-221D-03 (FM, 3-Leads, Body 10.63x4.9mm, Pitch 2.54mm)
pins: 1 A1, 2 K, 3 A2

## MURF1620CTG
designator D?
SWITCHMODE(TM) Power Rectifier, 3-Pin TO-220FP, Pb-Free, Tube; Manufacturer: On Semiconductor; PartNumber: MURF1620CTG; IFSM Max (A): 100; Type: Ultrafast; VRRM Max (V): 200; DatasheetVersion: Rev. 10; PackageVersion: Rev. E, 04/2013; PackageReference: TO-220-3-221AH; PackageDescription: 3-Pin Flange Mount, Vertical Straight Lead, Body 10 x 4.5 mm, Pitch 2.54 mm; Supplier 1: Digi-Key; Supplier Part Number 1: MURF1620CTGOS-ND; Supplier 2: Newark; Supplier Part Number 2: 26K4699; Supplier 3: Mouser; Supplier Part Number 3: 863-MURF1620CTG; Packing: Tube; RoHS: TRUE; Mounting Technology: Through Hole; ComponentLink1Description: Manufacturer URL; ComponentLink1URL: http://www.onsemi.com/; ComponentLink2Description: Datasheet; ComponentLink2URL: http://www.onsemi.cn/pub_link/Collateral/MURF1620CT-D.PDF; ComponentLink3Description: Package Specification; ComponentLink3URL: http://www.onsemi.com/pub_link/Collateral/221AH.PDF
footprint ONSC-TO-220-3-221AH (FM, 3-Leads, Body 10.3x4.7mm, Pitch 2.54mm)
pins: 1 A1, 2 K, 3 A2

## MURF1660CT
designator D?
SWITCHMODE(TM) Power Rectifier, 3-Pin TO-220, Pb-Free, Tube; Manufacturer: On Semiconductor; PartNumber: MURF1660CT; IFSM Max (A): 100; Type: Ultrafast; VRRM Max (V): 600; DatasheetVersion: Rev. 6; PackageVersion: Rev. K, 02/2009; PackageReference: TO-220FP-3-221D-03; PackageDescription: 3-Pin Flange Mount, Vertical Straight Lead, Body 10.295 x 4.7 mm, Pitch 2.54 mm; Supplier 1: Digi-Key; Supplier Part Number 1: MURF1660CTOS-ND; Packing: Tube; RoHS: TRUE; Mounting Technology: Through Hole; ComponentLink1Description: Manufacturer URL; ComponentLink1URL: http://www.onsemi.com/; ComponentLink2Description: Datasheet; ComponentLink2URL: http://www.onsemi.com/pub_link/Collateral/MURF1660CT-D.PDF; ComponentLink3Description: Package Specification; ComponentLink3URL: http://www.onsemi.cn/pub_link/Collateral/221D-03.PDF
footprint ONSC-TO-220FP-3-221D-03 (FM, 3-Leads, Body 10.63x4.9mm, Pitch 2.54mm)
pins: 1 A1, 2 K, 3 A2

## MURF1660CTG
designator D?
SWITCHMODE(TM) Power Rectifier, 3-Pin TO-220, Pb-Free, Tube; Manufacturer: On Semiconductor; PartNumber: MURF1660CTG; IFSM Max (A): 100; Type: Ultrafast; VRRM Max (V): 600; DatasheetVersion: Rev. 6; PackageVersion: Rev. E, 04/2013; PackageReference: TO-220-3-221AH; PackageDescription: 3-Pin FM, Body 4.5 x 10 mm, Pitch 2.54 mm; Supplier 1: Digi-Key; Supplier Part Number 1: MURF1660CTGOS-ND; Supplier 2: Newark; Supplier Part Number 2: 42K1585; Supplier 3: Mouser; Supplier Part Number 3: 863-MURF1660CTG; Packing: Tube; RoHS: TRUE; Mounting Technology: Through Hole; ComponentLink1Description: Manufacturer URL; ComponentLink1URL: http://www.onsemi.com/; ComponentLink2Description: Datasheet; ComponentLink2URL: http://www.onsemi.com/pub_link/Collateral/MURF1660CT-D.PDF; ComponentLink3Description: Package Specification; ComponentLink3URL: http://www.onsemi.cn/pub_link/Collateral/221AH.PDF
footprint ONSC-TO-220-3-221AH (FM, 3-Leads, Body 10.3x4.7mm, Pitch 2.54mm)
pins: 1 A1, 2 K, 3 A2